# Altium integrated library WE-MAPI (rev25a).IntLib: 184 symbols (part 3 of 4)
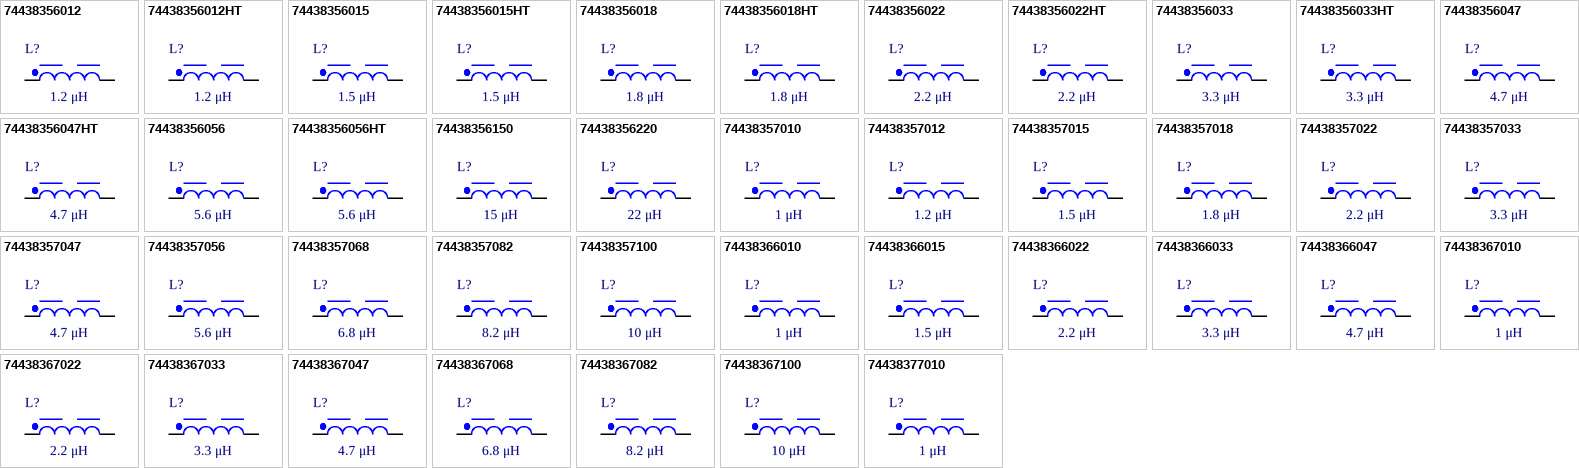
[diagram p6: symbols 74438356012 to 74438377010]

## 74438366033
designator L?, comment 3.3 μH
WE-MAPI SMT Power Inductor, size 5020, 3.3 μH, 6.1 A, 33.4 mΩ; Manufacturer Part Number: 74438366033; Manufacturer: Wurth Elektronik; Case/Size Code: 5020; DC Resistance: 33.4 mΩ; Operating Voltage (DC): 80 V; Performance Rated Current: 6.1 A; Saturation Current @ 30%: 9.7 A; Self Resonant Frequency: 23 MHz; Category: Power Inductors; Match Code: WE-MAPI; ComponentLink1Description: Website Link; ComponentLink1URL: https://www.we-online.com/redexpert/article/74438366033?ad; ComponentLink2Description: Datasheet Link; ComponentLink2URL: https://www.we-online.com/redexpert/spec/74438366033?ad; Mount: Surface Mount; Min Operating Temperature: -40 °C; Max Operating Temperature: 125 °C; Packaging: Tape and Reel; Length: 5.4 mm; Width: 5.4 mm; Height: 2.1 mm; Inductance: 3.3 μH
footprint WE-MAPI_5020
simulation model 5020_74438366033_3.3u
pins: 1, 2

## 74438366047
designator L?, comment 4.7 μH
WE-MAPI SMT Power Inductor, size 5020, 4.7 μH, 4.65 A, 54.8 mΩ; Manufacturer Part Number: 74438366047; Manufacturer: Wurth Elektronik; Case/Size Code: 5020; DC Resistance: 54.8 mΩ; Operating Voltage (DC): 80 V; Performance Rated Current: 4.65 A; Saturation Current @ 30%: 7.7 A; Self Resonant Frequency: 20 MHz; Category: Power Inductors; Match Code: WE-MAPI; ComponentLink1Description: Website Link; ComponentLink1URL: https://www.we-online.com/redexpert/article/74438366047?ad; ComponentLink2Description: Datasheet Link; ComponentLink2URL: https://www.we-online.com/redexpert/spec/74438366047?ad; Mount: Surface Mount; Min Operating Temperature: -40 °C; Max Operating Temperature: 125 °C; Packaging: Tape and Reel; Length: 5.4 mm; Width: 5.4 mm; Height: 2.1 mm; Inductance: 4.7 μH
footprint WE-MAPI_5020
simulation model 5020_74438366047_4.7u
pins: 1, 2

## 74438367010
designator L?, comment 1 μH
WE-MAPI SMT Power Inductor, size 5030, 1 μH, 11.85 A, 10 mΩ; Manufacturer Part Number: 74438367010; Manufacturer: Wurth Elektronik; Case/Size Code: 5030; DC Resistance: 10 mΩ; Operating Voltage (DC): 80 V; Performance Rated Current: 11.85 A; Saturation Current @ 30%: 13.1 A; Self Resonant Frequency: 44.5 MHz; Category: Power Inductors; Match Code: WE-MAPI; ComponentLink1Description: Website Link; ComponentLink1URL: https://www.we-online.com/redexpert/article/74438367010?ad; ComponentLink2Description: Datasheet Link; ComponentLink2URL: https://www.we-online.com/redexpert/spec/74438367010?ad; Mount: Surface Mount; Min Operating Temperature: -40 °C; Max Operating Temperature: 125 °C; Packaging: Tape and Reel; Length: 5.4 mm; Width: 5.4 mm; Height: 3.1 mm; Inductance: 1 μH
footprint WE-MAPI_5030
simulation model 5030_74438367010_1u
pins: 1, 2

## 74438367022
designator L?, comment 2.2 μH
WE-MAPI SMT Power Inductor, size 5030, 2.2 μH, 9.8 A, 14 mΩ; Manufacturer Part Number: 74438367022; Manufacturer: Wurth Elektronik; Case/Size Code: 5030; DC Resistance: 14 mΩ; Operating Voltage (DC): 80 V; Performance Rated Current: 9.8 A; Saturation Current @ 30%: 10.2 A; Self Resonant Frequency: 28 MHz; Category: Power Inductors; Match Code: WE-MAPI; ComponentLink1Description: Website Link; ComponentLink1URL: https://www.we-online.com/redexpert/article/74438367022?ad; ComponentLink2Description: Datasheet Link; ComponentLink2URL: https://www.we-online.com/redexpert/spec/74438367022?ad; Mount: Surface Mount; Min Operating Temperature: -40 °C; Max Operating Temperature: 125 °C; Packaging: Tape and Reel; Length: 5.4 mm; Width: 5.4 mm; Height: 3.1 mm; Inductance: 2.2 μH
footprint WE-MAPI_5030
simulation model 5030_74438367022_2.2u
pins: 1, 2

## 74438367033
designator L?, comment 3.3 μH
WE-MAPI SMT Power Inductor, size 5030, 3.3 μH, 8 A, 20 mΩ; Manufacturer Part Number: 74438367033; Manufacturer: Wurth Elektronik; Case/Size Code: 5030; DC Resistance: 20 mΩ; Operating Voltage (DC): 80 V; Performance Rated Current: 8 A; Saturation Current @ 30%: 10 A; Self Resonant Frequency: 22 MHz; Category: Power Inductors; Match Code: WE-MAPI; ComponentLink1Description: Website Link; ComponentLink1URL: https://www.we-online.com/redexpert/article/74438367033?ad; ComponentLink2Description: Datasheet Link; ComponentLink2URL: https://www.we-online.com/redexpert/spec/74438367033?ad; Mount: Surface Mount; Min Operating Temperature: -40 °C; Max Operating Temperature: 125 °C; Packaging: Tape and Reel; Length: 5.4 mm; Width: 5.4 mm; Height: 3.1 mm; Inductance: 3.3 μH
footprint WE-MAPI_5030
simulation model 5030_74438367033_3.3u
pins: 1, 2

## 74438367047
designator L?, comment 4.7 μH
WE-MAPI SMT Power Inductor, size 5030, 4.7 μH, 6.45 A, 30 mΩ; Manufacturer Part Number: 74438367047; Manufacturer: Wurth Elektronik; Case/Size Code: 5030; DC Resistance: 30 mΩ; Operating Voltage (DC): 80 V; Performance Rated Current: 6.45 A; Saturation Current @ 30%: 6.5 A; Self Resonant Frequency: 18.5 MHz; Category: Power Inductors; Match Code: WE-MAPI; ComponentLink1Description: Website Link; ComponentLink1URL: https://www.we-online.com/redexpert/article/74438367047?ad; ComponentLink2Description: Datasheet Link; ComponentLink2URL: https://www.we-online.com/redexpert/spec/74438367047?ad; Mount: Surface Mount; Min Operating Temperature: -40 °C; Max Operating Temperature: 125 °C; Packaging: Tape and Reel; Length: 5.4 mm; Width: 5.4 mm; Height: 3.1 mm; Inductance: 4.7 μH
footprint WE-MAPI_5030
simulation model 5030_74438367047_4.7u
pins: 1, 2

## 74438367068
designator L?, comment 6.8 μH
WE-MAPI SMT Power Inductor, size 5030, 6.8 μH, 5.3 A, 42 mΩ; Manufacturer Part Number: 74438367068; Manufacturer: Wurth Elektronik; Case/Size Code: 5030; DC Resistance: 42 mΩ; Operating Voltage (DC): 80 V; Performance Rated Current: 5.3 A; Saturation Current @ 30%: 7.7 A; Self Resonant Frequency: 15.5 MHz; Category: Power Inductors; Match Code: WE-MAPI; ComponentLink1Description: Website Link; ComponentLink1URL: https://www.we-online.com/redexpert/article/74438367068?ad; ComponentLink2Description: Datasheet Link; ComponentLink2URL: https://www.we-online.com/redexpert/spec/74438367068?ad; Mount: Surface Mount; Min Operating Temperature: -40 °C; Max Operating Temperature: 125 °C; Packaging: Tape and Reel; Length: 5.4 mm; Width: 5.4 mm; Height: 3.1 mm; Inductance: 6.8 μH
footprint WE-MAPI_5030
simulation model 5030_74438367068_6.8u
pins: 1, 2

## 74438367082
designator L?, comment 8.2 μH
WE-MAPI SMT Power Inductor, size 5030, 8.2 μH, 4.85 A, 50 mΩ; Manufacturer Part Number: 74438367082; Manufacturer: Wurth Elektronik; Case/Size Code: 5030; DC Resistance: 50 mΩ; Operating Voltage (DC): 80 V; Performance Rated Current: 4.85 A; Saturation Current @ 30%: 6.6 A; Self Resonant Frequency: 13 MHz; Category: Power Inductors; Match Code: WE-MAPI; ComponentLink1Description: Website Link; ComponentLink1URL: https://www.we-online.com/redexpert/article/74438367082?ad; ComponentLink2Description: Datasheet Link; ComponentLink2URL: https://www.we-online.com/redexpert/spec/74438367082?ad; Mount: Surface Mount; Min Operating Temperature: -40 °C; Max Operating Temperature: 125 °C; Packaging: Tape and Reel; Length: 5.4 mm; Width: 5.4 mm; Height: 3.1 mm; Inductance: 8.2 μH
footprint WE-MAPI_5030
simulation model 5030_74438367082_8.2u
pins: 1, 2

## 74438367100
designator L?, comment 10 μH
WE-MAPI SMT Power Inductor, size 5030, 10 μH, 4.3 A, 61 mΩ; Manufacturer Part Number: 74438367100; Manufacturer: Wurth Elektronik; Case/Size Code: 5030; DC Resistance: 61 mΩ; Operating Voltage (DC): 80 V; Performance Rated Current: 4.3 A; Saturation Current @ 30%: 6.6 A; Self Resonant Frequency: 13 MHz; Category: Power Inductors; Match Code: WE-MAPI; ComponentLink1Description: Website Link; ComponentLink1URL: https://www.we-online.com/redexpert/article/74438367100?ad; ComponentLink2Description: Datasheet Link; ComponentLink2URL: https://www.we-online.com/redexpert/spec/74438367100?ad; Mount: Surface Mount; Min Operating Temperature: -40 °C; Max Operating Temperature: 125 °C; Packaging: Tape and Reel; Length: 5.4 mm; Width: 5.4 mm; Height: 3.1 mm; Inductance: 10 μH
footprint WE-MAPI_5030
simulation model 5030_74438367100_10u
pins: 1, 2

## 74438377010
designator L?, comment 1 μH
WE-MAPI SMT Power Inductor, size 6030, 1 μH, 16.6 A, 4.8 mΩ; Manufacturer Part Number: 74438377010; Manufacturer: Wurth Elektronik; Case/Size Code: 6030; DC Resistance: 4.8 mΩ; Operating Voltage (DC): 80 V; Performance Rated Current: 16.6 A; Saturation Current @ 30%: 19.5 A; Self Resonant Frequency: 47 MHz; Category: Power Inductors; Match Code: WE-MAPI; ComponentLink1Description: Website Link; ComponentLink1URL: https://www.we-online.com/redexpert/article/74438377010?ad; ComponentLink2Description: Datasheet Link; ComponentLink2URL: https://www.we-online.com/redexpert/spec/74438377010?ad; Mount: Surface Mount; Min Operating Temperature: -40 °C; Max Operating Temperature: 125 °C; Packaging: Tape and Reel; Length: 6.6 mm; Width: 6.6 mm; Height: 3.1 mm; Inductance: 1 μH
footprint WE-MAPI_6030
simulation model 6030_74438377010_1u
pins: 1, 2

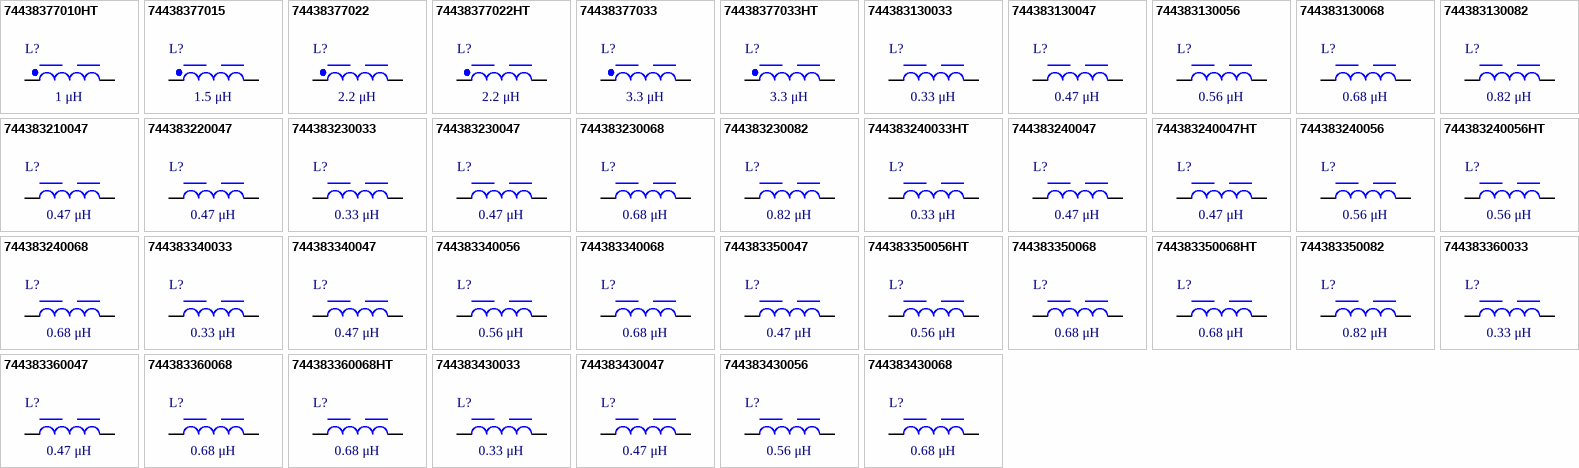
[diagram p3: symbols 74438377010HT to 744383430068]

## 74438377010HT
designator L?, comment 1 μH
WE-MAPI SMT Power Inductor, size 6030, 1 μH, 15.2 A, 6 mΩ; Manufacturer Part Number: 74438377010HT; Manufacturer: Wurth Elektronik; Case/Size Code: 6030; DC Resistance: 6 mΩ; Operating Voltage (DC): 80 V; Performance Rated Current: 15.2 A; Saturation Current @ 30%: 18 A; Self Resonant Frequency: 47 MHz; Category: Power Inductors; Match Code: WE-MAPI; ComponentLink1Description: Website Link; ComponentLink1URL: https://www.we-online.com/redexpert/article/74438377010HT?ad; ComponentLink2Description: Datasheet Link; ComponentLink2URL: https://www.we-online.com/redexpert/spec/74438377010HT?ad; Mount: Surface Mount; Min Operating Temperature: -55 °C; Max Operating Temperature: 150 °C; Packaging: Tape and Reel; Length: 6.6 mm; Width: 6.6 mm; Height: 3.1 mm; Inductance: 1 μH
footprint WE-MAPI_6030
simulation model 6030HT_74438377010HT_1u
pins: 1, 2

## 74438377015
designator L?, comment 1.5 μH
WE-MAPI SMT Power Inductor, size 6030, 1.5 μH, 13.1 A, 8.6 mΩ; Manufacturer Part Number: 74438377015; Manufacturer: Wurth Elektronik; Case/Size Code: 6030; DC Resistance: 8.6 mΩ; Operating Voltage (DC): 80 V; Performance Rated Current: 13.1 A; Saturation Current @ 30%: 15.7 A; Self Resonant Frequency: 37 MHz; Category: Power Inductors; Match Code: WE-MAPI; ComponentLink1Description: Website Link; ComponentLink1URL: https://www.we-online.com/redexpert/article/74438377015?ad; ComponentLink2Description: Datasheet Link; ComponentLink2URL: https://www.we-online.com/redexpert/spec/74438377015?ad; Mount: Surface Mount; Min Operating Temperature: -40 °C; Max Operating Temperature: 125 °C; Packaging: Tape and Reel; Length: 6.6 mm; Width: 6.6 mm; Height: 3.1 mm; Inductance: 1.5 μH
footprint WE-MAPI_6030
simulation model 6030_74438377015_1.5u
pins: 1, 2

## 74438377022
designator L?, comment 2.2 μH
WE-MAPI SMT Power Inductor, size 6030, 2.2 μH, 12.4 A, 10.3 mΩ; Manufacturer Part Number: 74438377022; Manufacturer: Wurth Elektronik; Case/Size Code: 6030; DC Resistance: 10.3 mΩ; Operating Voltage (DC): 80 V; Performance Rated Current: 12.4 A; Saturation Current @ 30%: 14 A; Self Resonant Frequency: 30 MHz; Category: Power Inductors; Match Code: WE-MAPI; ComponentLink1Description: Website Link; ComponentLink1URL: https://www.we-online.com/redexpert/article/74438377022?ad; ComponentLink2Description: Datasheet Link; ComponentLink2URL: https://www.we-online.com/redexpert/spec/74438377022?ad; Mount: Surface Mount; Min Operating Temperature: -40 °C; Max Operating Temperature: 125 °C; Packaging: Tape and Reel; Length: 6.6 mm; Width: 6.6 mm; Height: 3.1 mm; Inductance: 2.2 μH
footprint WE-MAPI_6030
simulation model 6030_74438377022_2.2u
pins: 1, 2

## 74438377022HT
designator L?, comment 2.2 μH
WE-MAPI SMT Power Inductor, size 6030, 2.2 μH, 11.4 A, 11.9 mΩ; Manufacturer Part Number: 74438377022HT; Manufacturer: Wurth Elektronik; Case/Size Code: 6030; DC Resistance: 11.9 mΩ; Operating Voltage (DC): 80 V; Performance Rated Current: 11.4 A; Saturation Current @ 30%: 12.8 A; Self Resonant Frequency: 28 MHz; Category: Power Inductors; Match Code: WE-MAPI; ComponentLink1Description: Website Link; ComponentLink1URL: https://www.we-online.com/redexpert/article/74438377022HT?ad; ComponentLink2Description: Datasheet Link; ComponentLink2URL: https://www.we-online.com/redexpert/spec/74438377022HT?ad; Mount: Surface Mount; Min Operating Temperature: -55 °C; Max Operating Temperature: 150 °C; Packaging: Tape and Reel; Length: 6.6 mm; Width: 6.6 mm; Height: 3.1 mm; Inductance: 2.2 μH
footprint WE-MAPI_6030
simulation model 6030HT_74438377022HT_2.2u
pins: 1, 2

## 74438377033
designator L?, comment 3.3 μH
WE-MAPI SMT Power Inductor, size 6030, 3.3 μH, 9.9 A, 15.9 mΩ; Manufacturer Part Number: 74438377033; Manufacturer: Wurth Elektronik; Case/Size Code: 6030; DC Resistance: 15.9 mΩ; Operating Voltage (DC): 80 V; Performance Rated Current: 9.9 A; Saturation Current @ 30%: 10.8 A; Self Resonant Frequency: 23 MHz; Category: Power Inductors; Match Code: WE-MAPI; ComponentLink1Description: Website Link; ComponentLink1URL: https://www.we-online.com/redexpert/article/74438377033?ad; ComponentLink2Description: Datasheet Link; ComponentLink2URL: https://www.we-online.com/redexpert/spec/74438377033?ad; Mount: Surface Mount; Min Operating Temperature: -40 °C; Max Operating Temperature: 125 °C; Packaging: Tape and Reel; Length: 6.6 mm; Width: 6.6 mm; Height: 3.1 mm; Inductance: 3.3 μH
footprint WE-MAPI_6030
simulation model 6030_74438377033_3.3u
pins: 1, 2

## 74438377033HT
designator L?, comment 3.3 μH
WE-MAPI SMT Power Inductor, size 6030, 3.3 μH, 9.6 A, 17.7 mΩ; Manufacturer Part Number: 74438377033HT; Manufacturer: Wurth Elektronik; Case/Size Code: 6030; DC Resistance: 17.7 mΩ; Operating Voltage (DC): 80 V; Performance Rated Current: 9.6 A; Saturation Current @ 30%: 11.2 A; Self Resonant Frequency: 22 MHz; Category: Power Inductors; Match Code: WE-MAPI; ComponentLink1Description: Website Link; ComponentLink1URL: https://www.we-online.com/redexpert/article/74438377033HT?ad; ComponentLink2Description: Datasheet Link; ComponentLink2URL: https://www.we-online.com/redexpert/spec/74438377033HT?ad; Mount: Surface Mount; Min Operating Temperature: -55 °C; Max Operating Temperature: 150 °C; Packaging: Tape and Reel; Length: 6.6 mm; Width: 6.6 mm; Height: 3.1 mm; Inductance: 3.3 μH
footprint WE-MAPI_6030
simulation model 6030HT_74438377033HT_3.3u
pins: 1, 2

## 744383130033
designator L?, comment 0.33 μH
WE-MAPI SMT Power Inductor, size 1610, 0.33 μH, 3.25 A, 65 mΩ; Manufacturer Part Number: 744383130033; Manufacturer: Wurth Elektronik; Case/Size Code: 1610; DC Resistance: 65 mΩ; Operating Voltage (DC): 80 V; Performance Rated Current: 3.25 A; Saturation Current @ 30%: 6.2 A; Self Resonant Frequency: 215 MHz; Category: Power Inductors; Match Code: WE-MAPI; ComponentLink1Description: Website Link; ComponentLink1URL: https://www.we-online.com/redexpert/article/744383130033?ad; ComponentLink2Description: Datasheet Link; ComponentLink2URL: https://www.we-online.com/redexpert/spec/744383130033?ad; Mount: Surface Mount; Min Operating Temperature: -40 °C; Max Operating Temperature: 125 °C; Packaging: Tape and Reel; Length: 1.6 mm; Width: 1.6 mm; Height: 1 mm; Inductance: 0.33 μH
footprint WE-MAPI_1610
simulation model 1610_744383130033_0.33u
pins: 1, 2

## 744383130047
designator L?, comment 0.47 μH
WE-MAPI SMT Power Inductor, size 1610, 0.47 μH, 2.95 A, 77 mΩ; Manufacturer Part Number: 744383130047; Manufacturer: Wurth Elektronik; Case/Size Code: 1610; DC Resistance: 77 mΩ; Operating Voltage (DC): 80 V; Performance Rated Current: 2.95 A; Saturation Current @ 30%: 5.6 A; Self Resonant Frequency: 200 MHz; Category: Power Inductors; Match Code: WE-MAPI; ComponentLink1Description: Website Link; ComponentLink1URL: https://www.we-online.com/redexpert/article/744383130047?ad; ComponentLink2Description: Datasheet Link; ComponentLink2URL: https://www.we-online.com/redexpert/spec/744383130047?ad; Mount: Surface Mount; Min Operating Temperature: -40 °C; Max Operating Temperature: 125 °C; Packaging: Tape and Reel; Length: 1.6 mm; Width: 1.6 mm; Height: 1 mm; Inductance: 0.47 μH
footprint WE-MAPI_1610
simulation model 1610_744383130047_0.47u
pins: 1, 2

## 744383130056
designator L?, comment 0.56 μH
WE-MAPI SMT Power Inductor, size 1610, 0.56 μH, 2.7 A, 90 mΩ; Manufacturer Part Number: 744383130056; Manufacturer: Wurth Elektronik; Case/Size Code: 1610; DC Resistance: 90 mΩ; Operating Voltage (DC): 80 V; Performance Rated Current: 2.7 A; Saturation Current @ 30%: 5.2 A; Self Resonant Frequency: 150 MHz; Category: Power Inductors; Match Code: WE-MAPI; ComponentLink1Description: Website Link; ComponentLink1URL: https://www.we-online.com/redexpert/article/744383130056?ad; ComponentLink2Description: Datasheet Link; ComponentLink2URL: https://www.we-online.com/redexpert/spec/744383130056?ad; Mount: Surface Mount; Min Operating Temperature: -40 °C; Max Operating Temperature: 125 °C; Packaging: Tape and Reel; Length: 1.6 mm; Width: 1.6 mm; Height: 1 mm; Inductance: 0.56 μH
footprint WE-MAPI_1610
simulation model 1610_744383130056_0.56u
pins: 1, 2

## 744383130068
designator L?, comment 0.68 μH
WE-MAPI SMT Power Inductor, size 1610, 0.68 μH, 2.55 A, 101 mΩ; Manufacturer Part Number: 744383130068; Manufacturer: Wurth Elektronik; Case/Size Code: 1610; DC Resistance: 101 mΩ; Operating Voltage (DC): 80 V; Performance Rated Current: 2.55 A; Saturation Current @ 30%: 4.8 A; Self Resonant Frequency: 135 MHz; Category: Power Inductors; Match Code: WE-MAPI; ComponentLink1Description: Website Link; ComponentLink1URL: https://www.we-online.com/redexpert/article/744383130068?ad; ComponentLink2Description: Datasheet Link; ComponentLink2URL: https://www.we-online.com/redexpert/spec/744383130068?ad; Mount: Surface Mount; Min Operating Temperature: -40 °C; Max Operating Temperature: 125 °C; Packaging: Tape and Reel; Length: 1.6 mm; Width: 1.6 mm; Height: 1 mm; Inductance: 0.68 μH
footprint WE-MAPI_1610
simulation model 1610_744383130068_0.68u
pins: 1, 2

## 744383130082
designator L?, comment 0.82 μH
WE-MAPI SMT Power Inductor, size 1610, 0.82 μH, 2.35 A, 115 mΩ; Manufacturer Part Number: 744383130082; Manufacturer: Wurth Elektronik; Case/Size Code: 1610; DC Resistance: 115 mΩ; Operating Voltage (DC): 80 V; Performance Rated Current: 2.35 A; Saturation Current @ 30%: 4.6 A; Self Resonant Frequency: 115 MHz; Category: Power Inductors; Match Code: WE-MAPI; ComponentLink1Description: Website Link; ComponentLink1URL: https://www.we-online.com/redexpert/article/744383130082?ad; ComponentLink2Description: Datasheet Link; ComponentLink2URL: https://www.we-online.com/redexpert/spec/744383130082?ad; Mount: Surface Mount; Min Operating Temperature: -40 °C; Max Operating Temperature: 125 °C; Packaging: Tape and Reel; Length: 1.6 mm; Width: 1.6 mm; Height: 1 mm; Inductance: 0.82 μH
footprint WE-MAPI_1610
simulation model 1610_744383130082_0.82u
pins: 1, 2

## 744383210047
designator L?, comment 0.47 μH
WE-MAPI SMT Power Inductor, size 2506, 0.47 μH, 3.25 A, 76 mΩ; Manufacturer Part Number: 744383210047; Manufacturer: Wurth Elektronik; Case/Size Code: 2506; DC Resistance: 76 mΩ; Operating Voltage (DC): 80 V; Performance Rated Current: 3.25 A; Saturation Current @ 30%: 4.65 A; Self Resonant Frequency: 165 MHz; Category: Power Inductors; Match Code: WE-MAPI; ComponentLink1Description: Website Link; ComponentLink1URL: https://www.we-online.com/redexpert/article/744383210047?ad; ComponentLink2Description: Datasheet Link; ComponentLink2URL: https://www.we-online.com/redexpert/spec/744383210047?ad; Mount: Surface Mount; Min Operating Temperature: -40 °C; Max Operating Temperature: 125 °C; Packaging: Tape and Reel; Length: 2.5 mm; Width: 2 mm; Height: 0.6 mm; Inductance: 0.47 μH
footprint WE-MAPI_2506
simulation model 2506_744383210047_0.47u
pins: 1, 2

## 744383220047
designator L?, comment 0.47 μH
WE-MAPI SMT Power Inductor, size 2508, 0.47 μH, 3.35 A, 70 mΩ; Manufacturer Part Number: 744383220047; Manufacturer: Wurth Elektronik; Case/Size Code: 2508; DC Resistance: 70 mΩ; Operating Voltage (DC): 80 V; Performance Rated Current: 3.35 A; Saturation Current @ 30%: 5.65 A; Self Resonant Frequency: 160 MHz; Category: Power Inductors; Match Code: WE-MAPI; ComponentLink1Description: Website Link; ComponentLink1URL: https://www.we-online.com/redexpert/article/744383220047?ad; ComponentLink2Description: Datasheet Link; ComponentLink2URL: https://www.we-online.com/redexpert/spec/744383220047?ad; Mount: Surface Mount; Min Operating Temperature: -40 °C; Max Operating Temperature: 125 °C; Packaging: Tape and Reel; Length: 2.5 mm; Width: 2 mm; Height: 0.8 mm; Inductance: 0.47 μH
footprint WE-MAPI_2508
simulation model 2508_744383220047_0.47u
pins: 1, 2

## 744383230033
designator L?, comment 0.33 μH
WE-MAPI SMT Power Inductor, size 2510, 0.33 μH, 5.5 A, 29 mΩ; Manufacturer Part Number: 744383230033; Manufacturer: Wurth Elektronik; Case/Size Code: 2510; DC Resistance: 29 mΩ; Operating Voltage (DC): 80 V; Performance Rated Current: 5.5 A; Saturation Current @ 30%: 8 A; Self Resonant Frequency: 180 MHz; Category: Power Inductors; Match Code: WE-MAPI; ComponentLink1Description: Website Link; ComponentLink1URL: https://www.we-online.com/redexpert/article/744383230033?ad; ComponentLink2Description: Datasheet Link; ComponentLink2URL: https://www.we-online.com/redexpert/spec/744383230033?ad; Mount: Surface Mount; Min Operating Temperature: -40 °C; Max Operating Temperature: 125 °C; Packaging: Tape and Reel; Length: 2.5 mm; Width: 2 mm; Height: 1 mm; Inductance: 0.33 μH
footprint WE-MAPI_2510
simulation model 2510_744383230033_0.33u
pins: 1, 2

## 744383230047
designator L?, comment 0.47 μH
WE-MAPI SMT Power Inductor, size 2510, 0.47 μH, 4.8 A, 37 mΩ; Manufacturer Part Number: 744383230047; Manufacturer: Wurth Elektronik; Case/Size Code: 2510; DC Resistance: 37 mΩ; Operating Voltage (DC): 80 V; Performance Rated Current: 4.8 A; Saturation Current @ 30%: 6.9 A; Self Resonant Frequency: 170 MHz; Category: Power Inductors; Match Code: WE-MAPI; ComponentLink1Description: Website Link; ComponentLink1URL: https://www.we-online.com/redexpert/article/744383230047?ad; ComponentLink2Description: Datasheet Link; ComponentLink2URL: https://www.we-online.com/redexpert/spec/744383230047?ad; Mount: Surface Mount; Min Operating Temperature: -40 °C; Max Operating Temperature: 125 °C; Packaging: Tape and Reel; Length: 2.5 mm; Width: 2 mm; Height: 1 mm; Inductance: 0.47 μH
footprint WE-MAPI_2510
simulation model 2510_744383230047_0.47u
pins: 1, 2

## 744383230068
designator L?, comment 0.68 μH
WE-MAPI SMT Power Inductor, size 2510, 0.68 μH, 4.25 A, 46 mΩ; Manufacturer Part Number: 744383230068; Manufacturer: Wurth Elektronik; Case/Size Code: 2510; DC Resistance: 46 mΩ; Operating Voltage (DC): 80 V; Performance Rated Current: 4.25 A; Saturation Current @ 30%: 6.1 A; Self Resonant Frequency: 135 MHz; Category: Power Inductors; Match Code: WE-MAPI; ComponentLink1Description: Website Link; ComponentLink1URL: https://www.we-online.com/redexpert/article/744383230068?ad; ComponentLink2Description: Datasheet Link; ComponentLink2URL: https://www.we-online.com/redexpert/spec/744383230068?ad; Mount: Surface Mount; Min Operating Temperature: -40 °C; Max Operating Temperature: 125 °C; Packaging: Tape and Reel; Length: 2.5 mm; Width: 2 mm; Height: 1 mm; Inductance: 0.68 μH
footprint WE-MAPI_2510
simulation model 2510_744383230068_0.68u
pins: 1, 2

## 744383230082
designator L?, comment 0.82 μH
WE-MAPI SMT Power Inductor, size 2510, 0.82 μH, 3.9 A, 53 mΩ; Manufacturer Part Number: 744383230082; Manufacturer: Wurth Elektronik; Case/Size Code: 2510; DC Resistance: 53 mΩ; Operating Voltage (DC): 80 V; Performance Rated Current: 3.9 A; Saturation Current @ 30%: 5.45 A; Self Resonant Frequency: 105 MHz; Category: Power Inductors; Match Code: WE-MAPI; ComponentLink1Description: Website Link; ComponentLink1URL: https://www.we-online.com/redexpert/article/744383230082?ad; ComponentLink2Description: Datasheet Link; ComponentLink2URL: https://www.we-online.com/redexpert/spec/744383230082?ad; Mount: Surface Mount; Min Operating Temperature: -40 °C; Max Operating Temperature: 125 °C; Packaging: Tape and Reel; Length: 2.5 mm; Width: 2 mm; Height: 1 mm; Inductance: 0.82 μH
footprint WE-MAPI_2510
simulation model 2510_744383230082_0.82u
pins: 1, 2

## 744383240033HT
designator L?, comment 0.33 μH
WE-MAPI SMT Power Inductor, size 2512, 0.33 μH, 6.2 A, 23.2 mΩ; Manufacturer Part Number: 744383240033HT; Manufacturer: Wurth Elektronik; Case/Size Code: 2512; DC Resistance: 23.2 mΩ; Operating Voltage (DC): 80 V; Performance Rated Current: 6.2 A; Saturation Current @ 30%: 8.6 A; Self Resonant Frequency: 174 MHz; Category: Power Inductors; Match Code: WE-MAPI; ComponentLink1Description: Website Link; ComponentLink1URL: https://www.we-online.com/redexpert/article/744383240033HT?ad; ComponentLink2Description: Datasheet Link; ComponentLink2URL: https://www.we-online.com/redexpert/spec/744383240033HT?ad; Mount: Surface Mount; Min Operating Temperature: -55 °C; Max Operating Temperature: 150 °C; Packaging: Tape and Reel; Length: 2.5 mm; Width: 2 mm; Height: 1.2 mm; Inductance: 0.33 μH
footprint WE-MAPI_2512
simulation model 2512HT_744383240033HT_0.33u
pins: 1, 2

## 744383240047
designator L?, comment 0.47 μH
WE-MAPI SMT Power Inductor, size 2512, 0.47 μH, 5.35 A, 30 mΩ; Manufacturer Part Number: 744383240047; Manufacturer: Wurth Elektronik; Case/Size Code: 2512; DC Resistance: 30 mΩ; Operating Voltage (DC): 80 V; Performance Rated Current: 5.35 A; Saturation Current @ 30%: 8 A; Self Resonant Frequency: 145 MHz; Category: Power Inductors; Match Code: WE-MAPI; ComponentLink1Description: Website Link; ComponentLink1URL: https://www.we-online.com/redexpert/article/744383240047?ad; ComponentLink2Description: Datasheet Link; ComponentLink2URL: https://www.we-online.com/redexpert/spec/744383240047?ad; Mount: Surface Mount; Min Operating Temperature: -40 °C; Max Operating Temperature: 125 °C; Packaging: Tape and Reel; Length: 2.5 mm; Width: 2 mm; Height: 1.2 mm; Inductance: 0.47 μH
footprint WE-MAPI_2512
simulation model 2512_744383240047_0.47u
pins: 1, 2

## 744383240047HT
designator L?, comment 0.47 μH
WE-MAPI SMT Power Inductor, size 2512, 0.47 μH, 5.3 A, 30.1 mΩ; Manufacturer Part Number: 744383240047HT; Manufacturer: Wurth Elektronik; Case/Size Code: 2512; DC Resistance: 30.1 mΩ; Operating Voltage (DC): 80 V; Performance Rated Current: 5.3 A; Saturation Current @ 30%: 7.5 A; Self Resonant Frequency: 131 MHz; Category: Power Inductors; Match Code: WE-MAPI; ComponentLink1Description: Website Link; ComponentLink1URL: https://www.we-online.com/redexpert/article/744383240047HT?ad; ComponentLink2Description: Datasheet Link; ComponentLink2URL: https://www.we-online.com/redexpert/spec/744383240047HT?ad; Mount: Surface Mount; Min Operating Temperature: -55 °C; Max Operating Temperature: 150 °C; Packaging: Tape and Reel; Length: 2.5 mm; Width: 2 mm; Height: 1.2 mm; Inductance: 0.47 μH
footprint WE-MAPI_2512
simulation model 2512HT_744383240047HT_0.47u
pins: 1, 2

## 744383240056
designator L?, comment 0.56 μH
WE-MAPI SMT Power Inductor, size 2512, 0.56 μH, 4.75 A, 37 mΩ; Manufacturer Part Number: 744383240056; Manufacturer: Wurth Elektronik; Case/Size Code: 2512; DC Resistance: 37 mΩ; Operating Voltage (DC): 80 V; Performance Rated Current: 4.75 A; Saturation Current @ 30%: 7.9 A; Self Resonant Frequency: 120 MHz; Category: Power Inductors; Match Code: WE-MAPI; ComponentLink1Description: Website Link; ComponentLink1URL: https://www.we-online.com/redexpert/article/744383240056?ad; ComponentLink2Description: Datasheet Link; ComponentLink2URL: https://www.we-online.com/redexpert/spec/744383240056?ad; Mount: Surface Mount; Min Operating Temperature: -40 °C; Max Operating Temperature: 125 °C; Packaging: Tape and Reel; Length: 2.5 mm; Width: 2 mm; Height: 1.2 mm; Inductance: 0.56 μH
footprint WE-MAPI_2512
simulation model 2512_744383240056_0.56u
pins: 1, 2

## 744383240056HT
designator L?, comment 0.56 μH
WE-MAPI SMT Power Inductor, size 2512, 0.56 μH, 4.7 A, 38.3 mΩ; Manufacturer Part Number: 744383240056HT; Manufacturer: Wurth Elektronik; Case/Size Code: 2512; DC Resistance: 38.3 mΩ; Operating Voltage (DC): 80 V; Performance Rated Current: 4.7 A; Saturation Current @ 30%: 6.7 A; Self Resonant Frequency: 102 MHz; Category: Power Inductors; Match Code: WE-MAPI; ComponentLink1Description: Website Link; ComponentLink1URL: https://www.we-online.com/redexpert/article/744383240056HT?ad; ComponentLink2Description: Datasheet Link; ComponentLink2URL: https://www.we-online.com/redexpert/spec/744383240056HT?ad; Mount: Surface Mount; Min Operating Temperature: -55 °C; Max Operating Temperature: 150 °C; Packaging: Tape and Reel; Length: 2.5 mm; Width: 2 mm; Height: 1.2 mm; Inductance: 0.56 μH
footprint WE-MAPI_2512
simulation model 2512HT_744383240056HT_0.56u
pins: 1, 2

## 744383240068
designator L?, comment 0.68 μH
WE-MAPI SMT Power Inductor, size 2512, 0.68 μH, 4.25 A, 45 mΩ; Manufacturer Part Number: 744383240068; Manufacturer: Wurth Elektronik; Case/Size Code: 2512; DC Resistance: 45 mΩ; Operating Voltage (DC): 80 V; Performance Rated Current: 4.25 A; Saturation Current @ 30%: 7.4 A; Self Resonant Frequency: 102 MHz; Category: Power Inductors; Match Code: WE-MAPI; ComponentLink1Description: Website Link; ComponentLink1URL: https://www.we-online.com/redexpert/article/744383240068?ad; ComponentLink2Description: Datasheet Link; ComponentLink2URL: https://www.we-online.com/redexpert/spec/744383240068?ad; Mount: Surface Mount; Min Operating Temperature: -40 °C; Max Operating Temperature: 125 °C; Packaging: Tape and Reel; Length: 2.5 mm; Width: 2 mm; Height: 1.2 mm; Inductance: 0.68 μH
footprint WE-MAPI_2512
simulation model 2512_744383240068_0.68u
pins: 1, 2

## 744383340033
designator L?, comment 0.33 μH
WE-MAPI SMT Power Inductor, size 3012, 0.33 μH, 7.4 A, 19 mΩ; Manufacturer Part Number: 744383340033; Manufacturer: Wurth Elektronik; Case/Size Code: 3012; DC Resistance: 19 mΩ; Operating Voltage (DC): 80 V; Performance Rated Current: 7.4 A; Saturation Current @ 30%: 13.3 A; Self Resonant Frequency: 140 MHz; Category: Power Inductors; Match Code: WE-MAPI; ComponentLink1Description: Website Link; ComponentLink1URL: https://www.we-online.com/redexpert/article/744383340033?ad; ComponentLink2Description: Datasheet Link; ComponentLink2URL: https://www.we-online.com/redexpert/spec/744383340033?ad; Mount: Surface Mount; Min Operating Temperature: -40 °C; Max Operating Temperature: 125 °C; Packaging: Tape and Reel; Length: 3 mm; Width: 3 mm; Height: 1.2 mm; Inductance: 0.33 μH
footprint WE-MAPI_3012
simulation model 3012_744383340033_0.33u
pins: 1, 2

## 744383340047
designator L?, comment 0.47 μH
WE-MAPI SMT Power Inductor, size 3012, 0.47 μH, 6.8 A, 22 mΩ; Manufacturer Part Number: 744383340047; Manufacturer: Wurth Elektronik; Case/Size Code: 3012; DC Resistance: 22 mΩ; Operating Voltage (DC): 80 V; Performance Rated Current: 6.8 A; Saturation Current @ 30%: 12.3 A; Self Resonant Frequency: 110 MHz; Category: Power Inductors; Match Code: WE-MAPI; ComponentLink1Description: Website Link; ComponentLink1URL: https://www.we-online.com/redexpert/article/744383340047?ad; ComponentLink2Description: Datasheet Link; ComponentLink2URL: https://www.we-online.com/redexpert/spec/744383340047?ad; Mount: Surface Mount; Min Operating Temperature: -40 °C; Max Operating Temperature: 125 °C; Packaging: Tape and Reel; Length: 3 mm; Width: 3 mm; Height: 1.2 mm; Inductance: 0.47 μH
footprint WE-MAPI_3012
simulation model 3012_744383340047_0.47u
pins: 1, 2

## 744383340056
designator L?, comment 0.56 μH
WE-MAPI SMT Power Inductor, size 3012, 0.56 μH, 5.8 A, 29 mΩ; Manufacturer Part Number: 744383340056; Manufacturer: Wurth Elektronik; Case/Size Code: 3012; DC Resistance: 29 mΩ; Operating Voltage (DC): 80 V; Performance Rated Current: 5.8 A; Saturation Current @ 30%: 11.1 A; Self Resonant Frequency: 108 MHz; Category: Power Inductors; Match Code: WE-MAPI; ComponentLink1Description: Website Link; ComponentLink1URL: https://www.we-online.com/redexpert/article/744383340056?ad; ComponentLink2Description: Datasheet Link; ComponentLink2URL: https://www.we-online.com/redexpert/spec/744383340056?ad; Mount: Surface Mount; Min Operating Temperature: -40 °C; Max Operating Temperature: 125 °C; Packaging: Tape and Reel; Length: 3 mm; Width: 3 mm; Height: 1.2 mm; Inductance: 0.56 μH
footprint WE-MAPI_3012
simulation model 3012_744383340056_0.56u
pins: 1, 2

## 744383340068
designator L?, comment 0.68 μH
WE-MAPI SMT Power Inductor, size 3012, 0.68 μH, 5.15 A, 36 mΩ; Manufacturer Part Number: 744383340068; Manufacturer: Wurth Elektronik; Case/Size Code: 3012; DC Resistance: 36 mΩ; Operating Voltage (DC): 80 V; Performance Rated Current: 5.15 A; Saturation Current @ 30%: 10 A; Self Resonant Frequency: 100 MHz; Category: Power Inductors; Match Code: WE-MAPI; ComponentLink1Description: Website Link; ComponentLink1URL: https://www.we-online.com/redexpert/article/744383340068?ad; ComponentLink2Description: Datasheet Link; ComponentLink2URL: https://www.we-online.com/redexpert/spec/744383340068?ad; Mount: Surface Mount; Min Operating Temperature: -40 °C; Max Operating Temperature: 125 °C; Packaging: Tape and Reel; Length: 3 mm; Width: 3 mm; Height: 1.2 mm; Inductance: 0.68 μH
footprint WE-MAPI_3012
simulation model 3012_744383340068_0.68u
pins: 1, 2

## 744383350047
designator L?, comment 0.47 μH
WE-MAPI SMT Power Inductor, size 3015, 0.47 μH, 7.1 A, 20 mΩ; Manufacturer Part Number: 744383350047; Manufacturer: Wurth Elektronik; Case/Size Code: 3015; DC Resistance: 20 mΩ; Operating Voltage (DC): 80 V; Performance Rated Current: 7.1 A; Saturation Current @ 30%: 7.4 A; Self Resonant Frequency: 105 MHz; Category: Power Inductors; Match Code: WE-MAPI; ComponentLink1Description: Website Link; ComponentLink1URL: https://www.we-online.com/redexpert/article/744383350047?ad; ComponentLink2Description: Datasheet Link; ComponentLink2URL: https://www.we-online.com/redexpert/spec/744383350047?ad; Mount: Surface Mount; Min Operating Temperature: -40 °C; Max Operating Temperature: 125 °C; Packaging: Tape and Reel; Length: 3 mm; Width: 3 mm; Height: 1.5 mm; Inductance: 0.47 μH
footprint WE-MAPI_3015
simulation model 3015_744383350047_0.47u
pins: 1, 2

## 744383350056HT
designator L?, comment 0.56 μH
WE-MAPI SMT Power Inductor, size 3015, 0.56 μH, 7.3 A, 19.3 mΩ; Manufacturer Part Number: 744383350056HT; Manufacturer: Wurth Elektronik; Case/Size Code: 3015; DC Resistance: 19.3 mΩ; Operating Voltage (DC): 80 V; Performance Rated Current: 7.3 A; Saturation Current @ 30%: 7.8 A; Self Resonant Frequency: 93 MHz; Category: Power Inductors; Match Code: WE-MAPI; ComponentLink1Description: Website Link; ComponentLink1URL: https://www.we-online.com/redexpert/article/744383350056HT?ad; ComponentLink2Description: Datasheet Link; ComponentLink2URL: https://www.we-online.com/redexpert/spec/744383350056HT?ad; Mount: Surface Mount; Min Operating Temperature: -55 °C; Max Operating Temperature: 150 °C; Packaging: Tape and Reel; Length: 3 mm; Width: 1.5 mm; Height: 1.5 mm; Inductance: 0.56 μH
footprint WE-MAPI_3015
simulation model 3015HT_744383350056HT_0.56u
pins: 1, 2

## 744383350068
designator L?, comment 0.68 μH
WE-MAPI SMT Power Inductor, size 3015, 0.68 μH, 6.3 A, 25 mΩ; Manufacturer Part Number: 744383350068; Manufacturer: Wurth Elektronik; Case/Size Code: 3015; DC Resistance: 25 mΩ; Operating Voltage (DC): 80 V; Performance Rated Current: 6.3 A; Saturation Current @ 30%: 9.7 A; Self Resonant Frequency: 100 MHz; Category: Power Inductors; Match Code: WE-MAPI; ComponentLink1Description: Website Link; ComponentLink1URL: https://www.we-online.com/redexpert/article/744383350068?ad; ComponentLink2Description: Datasheet Link; ComponentLink2URL: https://www.we-online.com/redexpert/spec/744383350068?ad; Mount: Surface Mount; Min Operating Temperature: -40 °C; Max Operating Temperature: 125 °C; Packaging: Tape and Reel; Length: 3 mm; Width: 3 mm; Height: 1.5 mm; Inductance: 0.68 μH
footprint WE-MAPI_3015
simulation model 3015_744383350068_0.68u
pins: 1, 2

## 744383350068HT
designator L?, comment 0.68 μH
WE-MAPI SMT Power Inductor, size 3015, 0.68 μH, 6.8 A, 22.1 mΩ; Manufacturer Part Number: 744383350068HT; Manufacturer: Wurth Elektronik; Case/Size Code: 3015; DC Resistance: 22.1 mΩ; Operating Voltage (DC): 80 V; Performance Rated Current: 6.8 A; Saturation Current @ 30%: 7.4 A; Self Resonant Frequency: 78 MHz; Category: Power Inductors; Match Code: WE-MAPI; ComponentLink1Description: Website Link; ComponentLink1URL: https://www.we-online.com/redexpert/article/744383350068HT?ad; ComponentLink2Description: Datasheet Link; ComponentLink2URL: https://www.we-online.com/redexpert/spec/744383350068HT?ad; Mount: Surface Mount; Min Operating Temperature: -55 °C; Max Operating Temperature: 150 °C; Packaging: Tape and Reel; Length: 3 mm; Width: 1.5 mm; Height: 1.5 mm; Inductance: 0.68 μH
footprint WE-MAPI_3015
simulation model 3015HT_744383350068HT_0.68u
pins: 1, 2

## 744383350082
designator L?, comment 0.82 μH
WE-MAPI SMT Power Inductor, size 3015, 0.82 μH, 5.7 A, 30 mΩ; Manufacturer Part Number: 744383350082; Manufacturer: Wurth Elektronik; Case/Size Code: 3015; DC Resistance: 30 mΩ; Operating Voltage (DC): 80 V; Performance Rated Current: 5.7 A; Saturation Current @ 30%: 8.6 A; Self Resonant Frequency: 85 MHz; Category: Power Inductors; Match Code: WE-MAPI; ComponentLink1Description: Website Link; ComponentLink1URL: https://www.we-online.com/redexpert/article/744383350082?ad; ComponentLink2Description: Datasheet Link; ComponentLink2URL: https://www.we-online.com/redexpert/spec/744383350082?ad; Mount: Surface Mount; Min Operating Temperature: -40 °C; Max Operating Temperature: 125 °C; Packaging: Tape and Reel; Length: 3 mm; Width: 3 mm; Height: 1.5 mm; Inductance: 0.82 μH
footprint WE-MAPI_3015
simulation model 3015_744383350082_0.82u
pins: 1, 2

## 744383360033
designator L?, comment 0.33 μH
WE-MAPI SMT Power Inductor, size 3020, 0.33 μH, 8.7 A, 14 mΩ; Manufacturer Part Number: 744383360033; Manufacturer: Wurth Elektronik; Case/Size Code: 3020; DC Resistance: 14 mΩ; Operating Voltage (DC): 80 V; Performance Rated Current: 8.7 A; Saturation Current @ 30%: 10.5 A; Self Resonant Frequency: 140 MHz; Category: Power Inductors; Match Code: WE-MAPI; ComponentLink1Description: Website Link; ComponentLink1URL: https://www.we-online.com/redexpert/article/744383360033?ad; ComponentLink2Description: Datasheet Link; ComponentLink2URL: https://www.we-online.com/redexpert/spec/744383360033?ad; Mount: Surface Mount; Min Operating Temperature: -40 °C; Max Operating Temperature: 125 °C; Packaging: Tape and Reel; Length: 3 mm; Width: 3 mm; Height: 2 mm; Inductance: 0.33 μH
footprint WE-MAPI_3020
simulation model 3020_744383360033_0.33u
pins: 1, 2

## 744383360047
designator L?, comment 0.47 μH
WE-MAPI SMT Power Inductor, size 3020, 0.47 μH, 7.55 A, 18 mΩ; Manufacturer Part Number: 744383360047; Manufacturer: Wurth Elektronik; Case/Size Code: 3020; DC Resistance: 18 mΩ; Operating Voltage (DC): 80 V; Performance Rated Current: 7.55 A; Saturation Current @ 30%: 9.8 A; Self Resonant Frequency: 99 MHz; Category: Power Inductors; Match Code: WE-MAPI; ComponentLink1Description: Website Link; ComponentLink1URL: https://www.we-online.com/redexpert/article/744383360047?ad; ComponentLink2Description: Datasheet Link; ComponentLink2URL: https://www.we-online.com/redexpert/spec/744383360047?ad; Mount: Surface Mount; Min Operating Temperature: -40 °C; Max Operating Temperature: 125 °C; Packaging: Tape and Reel; Length: 3 mm; Width: 3 mm; Height: 2 mm; Inductance: 0.47 μH
footprint WE-MAPI_3020
simulation model 3020_744383360047_0.47u
pins: 1, 2

## 744383360068
designator L?, comment 0.68 μH
WE-MAPI SMT Power Inductor, size 3020, 0.68 μH, 6.75 A, 22 mΩ; Manufacturer Part Number: 744383360068; Manufacturer: Wurth Elektronik; Case/Size Code: 3020; DC Resistance: 22 mΩ; Operating Voltage (DC): 80 V; Performance Rated Current: 6.75 A; Saturation Current @ 30%: 8.1 A; Self Resonant Frequency: 85 MHz; Category: Power Inductors; Match Code: WE-MAPI; ComponentLink1Description: Website Link; ComponentLink1URL: https://www.we-online.com/redexpert/article/744383360068?ad; ComponentLink2Description: Datasheet Link; ComponentLink2URL: https://www.we-online.com/redexpert/spec/744383360068?ad; Mount: Surface Mount; Min Operating Temperature: -40 °C; Max Operating Temperature: 125 °C; Packaging: Tape and Reel; Length: 3 mm; Width: 3 mm; Height: 2 mm; Inductance: 0.68 μH
footprint WE-MAPI_3020
simulation model 3020_744383360068_0.68u
pins: 1, 2

## 744383360068HT
designator L?, comment 0.68 μH
WE-MAPI SMT Power Inductor, size 3020, 0.68 μH, 6.4 A, 24.4 mΩ; Manufacturer Part Number: 744383360068HT; Manufacturer: Wurth Elektronik; Case/Size Code: 3020; DC Resistance: 24.4 mΩ; Operating Voltage (DC): 80 V; Performance Rated Current: 6.4 A; Saturation Current @ 30%: 6.7 A; Self Resonant Frequency: 85 MHz; Category: Power Inductors; Match Code: WE-MAPI; ComponentLink1Description: Website Link; ComponentLink1URL: https://www.we-online.com/redexpert/article/744383360068HT?ad; ComponentLink2Description: Datasheet Link; ComponentLink2URL: https://www.we-online.com/redexpert/spec/744383360068HT?ad; Mount: Surface Mount; Min Operating Temperature: -55 °C; Max Operating Temperature: 150 °C; Packaging: Tape and Reel; Length: 3 mm; Width: 3 mm; Height: 2 mm; Inductance: 0.68 μH
footprint WE-MAPI_3020
simulation model 3020HT_744383360068HT_0.68u
pins: 1, 2

## 744383430033
designator L?, comment 0.33 μH
WE-MAPI SMT Power Inductor, size 2010, 0.33 μH, 4.35 A, 40 mΩ; Manufacturer Part Number: 744383430033; Manufacturer: Wurth Elektronik; Case/Size Code: 2010; DC Resistance: 40 mΩ; Operating Voltage (DC): 80 V; Performance Rated Current: 4.35 A; Saturation Current @ 30%: 7.5 A; Self Resonant Frequency: 205 MHz; Category: Power Inductors; Match Code: WE-MAPI; ComponentLink1Description: Website Link; ComponentLink1URL: https://www.we-online.com/redexpert/article/744383430033?ad; ComponentLink2Description: Datasheet Link; ComponentLink2URL: https://www.we-online.com/redexpert/spec/744383430033?ad; Mount: Surface Mount; Min Operating Temperature: -40 °C; Max Operating Temperature: 125 °C; Packaging: Tape and Reel; Length: 2 mm; Width: 1.6 mm; Height: 1 mm; Inductance: 0.33 μH
footprint WE-MAPI_2010
simulation model 2010_744383430033_0.33u
pins: 1, 2

## 744383430047
designator L?, comment 0.47 μH
WE-MAPI SMT Power Inductor, size 2010, 0.47 μH, 3.9 A, 49 mΩ; Manufacturer Part Number: 744383430047; Manufacturer: Wurth Elektronik; Case/Size Code: 2010; DC Resistance: 49 mΩ; Operating Voltage (DC): 80 V; Performance Rated Current: 3.9 A; Saturation Current @ 30%: 6.5 A; Self Resonant Frequency: 175 MHz; Category: Power Inductors; Match Code: WE-MAPI; ComponentLink1Description: Website Link; ComponentLink1URL: https://www.we-online.com/redexpert/article/744383430047?ad; ComponentLink2Description: Datasheet Link; ComponentLink2URL: https://www.we-online.com/redexpert/spec/744383430047?ad; Mount: Surface Mount; Min Operating Temperature: -40 °C; Max Operating Temperature: 125 °C; Packaging: Tape and Reel; Length: 2 mm; Width: 1.6 mm; Height: 1 mm; Inductance: 0.47 μH
footprint WE-MAPI_2010
simulation model 2010_744383430047_0.47u
pins: 1, 2

## 744383430056
designator L?, comment 0.56 μH
WE-MAPI SMT Power Inductor, size 2010, 0.56 μH, 3.6 A, 56 mΩ; Manufacturer Part Number: 744383430056; Manufacturer: Wurth Elektronik; Case/Size Code: 2010; DC Resistance: 56 mΩ; Operating Voltage (DC): 80 V; Performance Rated Current: 3.6 A; Saturation Current @ 30%: 6.2 A; Self Resonant Frequency: 135 MHz; Category: Power Inductors; Match Code: WE-MAPI; ComponentLink1Description: Website Link; ComponentLink1URL: https://www.we-online.com/redexpert/article/744383430056?ad; ComponentLink2Description: Datasheet Link; ComponentLink2URL: https://www.we-online.com/redexpert/spec/744383430056?ad; Mount: Surface Mount; Min Operating Temperature: -40 °C; Max Operating Temperature: 125 °C; Packaging: Tape and Reel; Length: 2 mm; Width: 1.6 mm; Height: 1 mm; Inductance: 0.56 μH
footprint WE-MAPI_2010
simulation model 2010_744383430056_0.56u
pins: 1, 2

## 744383430068
designator L?, comment 0.68 μH
WE-MAPI SMT Power Inductor, size 2010, 0.68 μH, 3.3 A, 65 mΩ; Manufacturer Part Number: 744383430068; Manufacturer: Wurth Elektronik; Case/Size Code: 2010; DC Resistance: 65 mΩ; Operating Voltage (DC): 80 V; Performance Rated Current: 3.3 A; Saturation Current @ 30%: 5.9 A; Self Resonant Frequency: 130 MHz; Category: Power Inductors; Match Code: WE-MAPI; ComponentLink1Description: Website Link; ComponentLink1URL: https://www.we-online.com/redexpert/article/744383430068?ad; ComponentLink2Description: Datasheet Link; ComponentLink2URL: https://www.we-online.com/redexpert/spec/744383430068?ad; Mount: Surface Mount; Min Operating Temperature: -40 °C; Max Operating Temperature: 125 °C; Packaging: Tape and Reel; Length: 2 mm; Width: 1.6 mm; Height: 1 mm; Inductance: 0.68 μH
footprint WE-MAPI_2010
simulation model 2010_744383430068_0.68u
pins: 1, 2

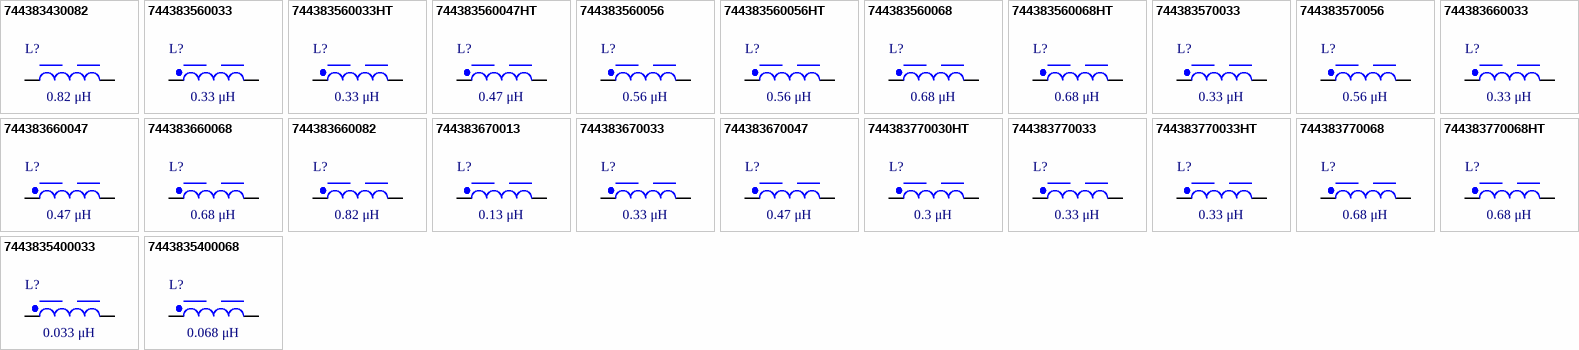
[diagram p4: symbols 744383430082 to 7443835400068]

## 744383430082
designator L?, comment 0.82 μH
WE-MAPI SMT Power Inductor, size 2010, 0.82 μH, 3.15 A, 71 mΩ; Manufacturer Part Number: 744383430082; Manufacturer: Wurth Elektronik; Case/Size Code: 2010; DC Resistance: 71 mΩ; Operating Voltage (DC): 80 V; Performance Rated Current: 3.15 A; Saturation Current @ 30%: 5.35 A; Self Resonant Frequency: 125 MHz; Category: Power Inductors; Match Code: WE-MAPI; ComponentLink1Description: Website Link; ComponentLink1URL: https://www.we-online.com/redexpert/article/744383430082?ad; ComponentLink2Description: Datasheet Link; ComponentLink2URL: https://www.we-online.com/redexpert/spec/744383430082?ad; Mount: Surface Mount; Min Operating Temperature: -40 °C; Max Operating Temperature: 125 °C; Packaging: Tape and Reel; Length: 2 mm; Width: 1.6 mm; Height: 1 mm; Inductance: 0.82 μH
footprint WE-MAPI_2010
simulation model 2010_744383430082_0.82u
pins: 1, 2

## 744383560033
designator L?, comment 0.33 μH
WE-MAPI SMT Power Inductor, size 4020, 0.33 μH, 14.95 A, 6 mΩ; Manufacturer Part Number: 744383560033; Manufacturer: Wurth Elektronik; Case/Size Code: 4020; DC Resistance: 6 mΩ; Operating Voltage (DC): 80 V; Performance Rated Current: 14.95 A; Saturation Current @ 30%: 16.7 A; Self Resonant Frequency: 115 MHz; Category: Power Inductors; Match Code: WE-MAPI; ComponentLink1Description: Website Link; ComponentLink1URL: https://www.we-online.com/redexpert/article/744383560033?ad; ComponentLink2Description: Datasheet Link; ComponentLink2URL: https://www.we-online.com/redexpert/spec/744383560033?ad; Mount: Surface Mount; Min Operating Temperature: -40 °C; Max Operating Temperature: 125 °C; Packaging: Tape and Reel; Length: 4.1 mm; Width: 4.1 mm; Height: 2.1 mm; Inductance: 0.33 μH
footprint WE-MAPI_4020
simulation model 4020_744383560033_0.33u
pins: 1, 2

## 744383560033HT
designator L?, comment 0.33 μH
WE-MAPI SMT Power Inductor, size 4020, 0.33 μH, 13.3 A, 6.5 mΩ; Manufacturer Part Number: 744383560033HT; Manufacturer: Wurth Elektronik; Case/Size Code: 4020; DC Resistance: 6.5 mΩ; Operating Voltage (DC): 80 V; Performance Rated Current: 13.3 A; Saturation Current @ 30%: 14.8 A; Self Resonant Frequency: 98 MHz; Category: Power Inductors; Match Code: WE-MAPI; ComponentLink1Description: Website Link; ComponentLink1URL: https://www.we-online.com/redexpert/article/744383560033HT?ad; ComponentLink2Description: Datasheet Link; ComponentLink2URL: https://www.we-online.com/redexpert/spec/744383560033HT?ad; Mount: Surface Mount; Min Operating Temperature: -55 °C; Max Operating Temperature: 150 °C; Packaging: Tape and Reel; Length: 4.1 mm; Width: 4.1 mm; Height: 2.1 mm; Inductance: 0.33 μH
footprint WE-MAPI_4020
simulation model 4020_744383560033HT_0.33u
pins: 1, 2

## 744383560047HT
designator L?, comment 0.47 μH
WE-MAPI SMT Power Inductor, size 4020, 0.47 μH, 12.7 A, 7 mΩ; Manufacturer Part Number: 744383560047HT; Manufacturer: Wurth Elektronik; Case/Size Code: 4020; DC Resistance: 7 mΩ; Operating Voltage (DC): 80 V; Performance Rated Current: 12.7 A; Saturation Current @ 30%: 13 A; Self Resonant Frequency: 83 MHz; Category: Power Inductors; Match Code: WE-MAPI; ComponentLink1Description: Website Link; ComponentLink1URL: https://www.we-online.com/redexpert/article/744383560047HT?ad; ComponentLink2Description: Datasheet Link; ComponentLink2URL: https://www.we-online.com/redexpert/spec/744383560047HT?ad; Mount: Surface Mount; Min Operating Temperature: -55 °C; Max Operating Temperature: 150 °C; Packaging: Tape and Reel; Length: 4.1 mm; Width: 4.1 mm; Height: 2.1 mm; Inductance: 0.47 μH
footprint WE-MAPI_4020
simulation model 4020_744383560047HT_0.47u
pins: 1, 2

## 744383560056
designator L?, comment 0.56 μH
WE-MAPI SMT Power Inductor, size 4020, 0.56 μH, 13.65 A, 7 mΩ; Manufacturer Part Number: 744383560056; Manufacturer: Wurth Elektronik; Case/Size Code: 4020; DC Resistance: 7 mΩ; Operating Voltage (DC): 80 V; Performance Rated Current: 13.65 A; Saturation Current @ 30%: 14.7 A; Self Resonant Frequency: 85 MHz; Category: Power Inductors; Match Code: WE-MAPI; ComponentLink1Description: Website Link; ComponentLink1URL: https://www.we-online.com/redexpert/article/744383560056?ad; ComponentLink2Description: Datasheet Link; ComponentLink2URL: https://www.we-online.com/redexpert/spec/744383560056?ad; Mount: Surface Mount; Min Operating Temperature: -40 °C; Max Operating Temperature: 125 °C; Packaging: Tape and Reel; Length: 4.1 mm; Width: 4.1 mm; Height: 2.1 mm; Inductance: 0.56 μH
footprint WE-MAPI_4020
simulation model 4020_744383560056_0.56u
pins: 1, 2